# Altium footprint library 5050 SMD.PCBLIB: 1 footprints
Each footprint in its own frame and in the unit in brackets; x right, y up, seen from the top. Pads: shape width x height; smd on the part's side, far side on the other; paste and mask are expansions set on the pad; w line width, h text height; cw(c..) or ccw(c..) is an arc to the next point about the centre after c.
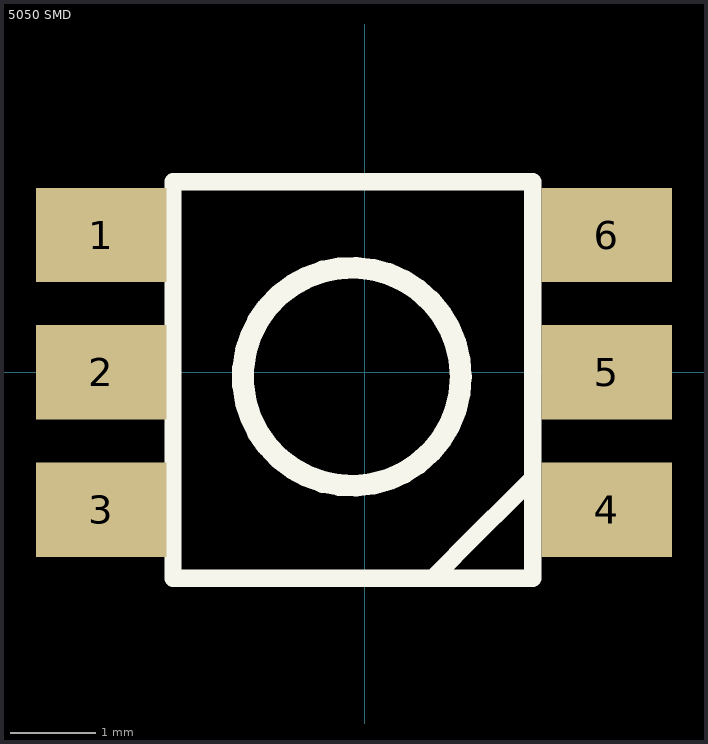
[diagram p0: the footprint, top view; thin cyan lines are the x and y axes]

## 5050 SMD [mil] "LED RGB 5050 SMD"
pads (6):
  rect 60x43.31 smd: 1(-120.91,62.99) 2(-120.91,0) 3(-120.91,-62.99) 4(110.91,-62.99) 5(110.91,0) 6(110.91,62.99)
Top Overlay:
  circle w10: c-6,-2 r50
  lines w8: -88,-94.49 -69.96,-94.49 77,-94.49 ; -88,-94 -88,-46.88 -88,47.37 -88,87 ; -88,87.49 -46.75,87.49 35.75,87.49 77,87.49 ; 31.73,-93.72 51.15,-74.3 67.53,-57.92 75.72,-49.73 ; 77,-93 77,-15.38 77,15.38 77,87
Mechanical 8:
  region: 138.7,19.69 138.7,-19.69 93.43,-19.69 93.43,19.69
  region: 138.7,-43.31 138.7,-82.68 93.43,-82.68 93.43,-43.31
  region: 138.7,82.68 138.7,43.31 93.43,43.31 93.43,82.68
  region: -148.7,-19.69 -148.7,19.69 -103.43,19.69 -103.43,-19.69
  region: -148.7,43.31 -148.7,82.68 -103.43,82.68 -103.43,43.31
  region: -148.7,-82.68 -148.7,-43.31 -103.43,-43.31 -103.43,-82.68
3D body "User Library-APA102C.STEP": height 60.12, standoff -0.91, extent -113.28,-98.43 103.26,98.42